# Altium footprint library MolexMicroFit3_4POS_2ROW_RA.PcbLib: 1 footprints
Each footprint in its own frame and in the unit in brackets; x right, y up, seen from the top. Pads: shape width x height; smd on the part's side, far side on the other; paste and mask are expansions set on the pad; w line width, h text height; cw(c..) or ccw(c..) is an arc to the next point about the centre after c.
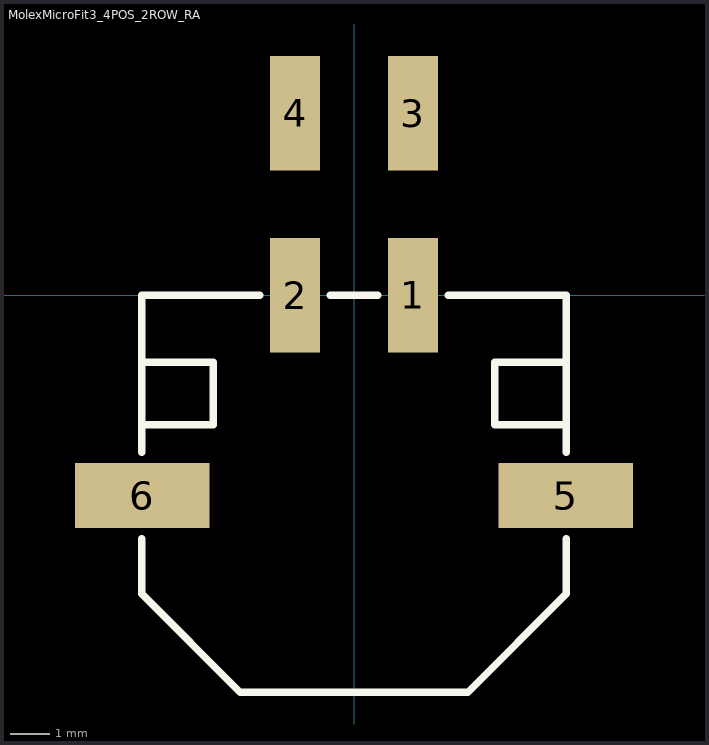
[diagram p0: the footprint, top view; thin cyan lines are the x and y axes]

## MolexMicroFit3_4POS_2ROW_RA [mm]
pads (6):
  rect 1.27x2.92 smd: 1(1.5,0) 2(-1.5,0) 3(1.5,4.63) 4(-1.5,4.63)
  rect 3.43x1.65 smd: 5(5.385,-5.1) 6(-5.385,-5.1)
Top Overlay:
  lines w0.191: -5.4,-6.2 -5.4,-7.6 -2.9,-10.1 2.9,-10.1 5.4,-7.6 5.4,-6.2 ; -5.4,-4 -5.4,0 -2.4,0 ; -5.4,-3.3 -3.575,-3.3 -3.575,-1.7 -5.4,-1.7 ; -0.6,0 0.6,0 ; 2.4,0 5.4,0 5.4,-4 ; 5.4,-3.3 3.575,-3.3 3.575,-1.7 5.4,-1.7
3D body "430450410.stp": height 8.78, standoff 0.01, extent -6.825,-9.655 6.825,5.745
3D body: height 0.7, standoff 0, extent 0.4,-3.8 0.4,-3.8